# EAGLE library part B8B-XH-A(JST) (library Traficon)
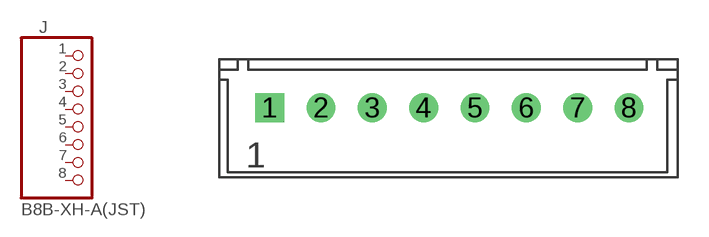
[diagram p253: symbol with the pads of B8B-XH-A; footprint B8B-XH-A]

Designator prefix J

## B8B-XH-A(JST)  [B8B-XH-A]
1  1  pas
2  2  pas
3  3  pas
4  4  pas
5  5  pas
6  6  pas
7  7  pas
8  8  pas

## Footprint B8B-XH-A (pad centres in mm)
drill 0.9 square: 1 0,-0.01
drill 0.9 round: 2 2.5,-0.01; 3 5,-0.01; 4 7.5,-0.01; 5 10,-0.01; 6 12.5,-0.01; 7 15,-0.01; 8 17.5,-0.01